# Altium footprint library MDBU014A.PcbLib: 53 footprints (part 1 of 4)
Each footprint in its own frame and in the unit in brackets; x right, y up, seen from the top. Pads: shape width x height; smd on the part's side, far side on the other; paste and mask are expansions set on the pad; w line width, h text height; cw(c..) or ccw(c..) is an arc to the next point about the centre after c.
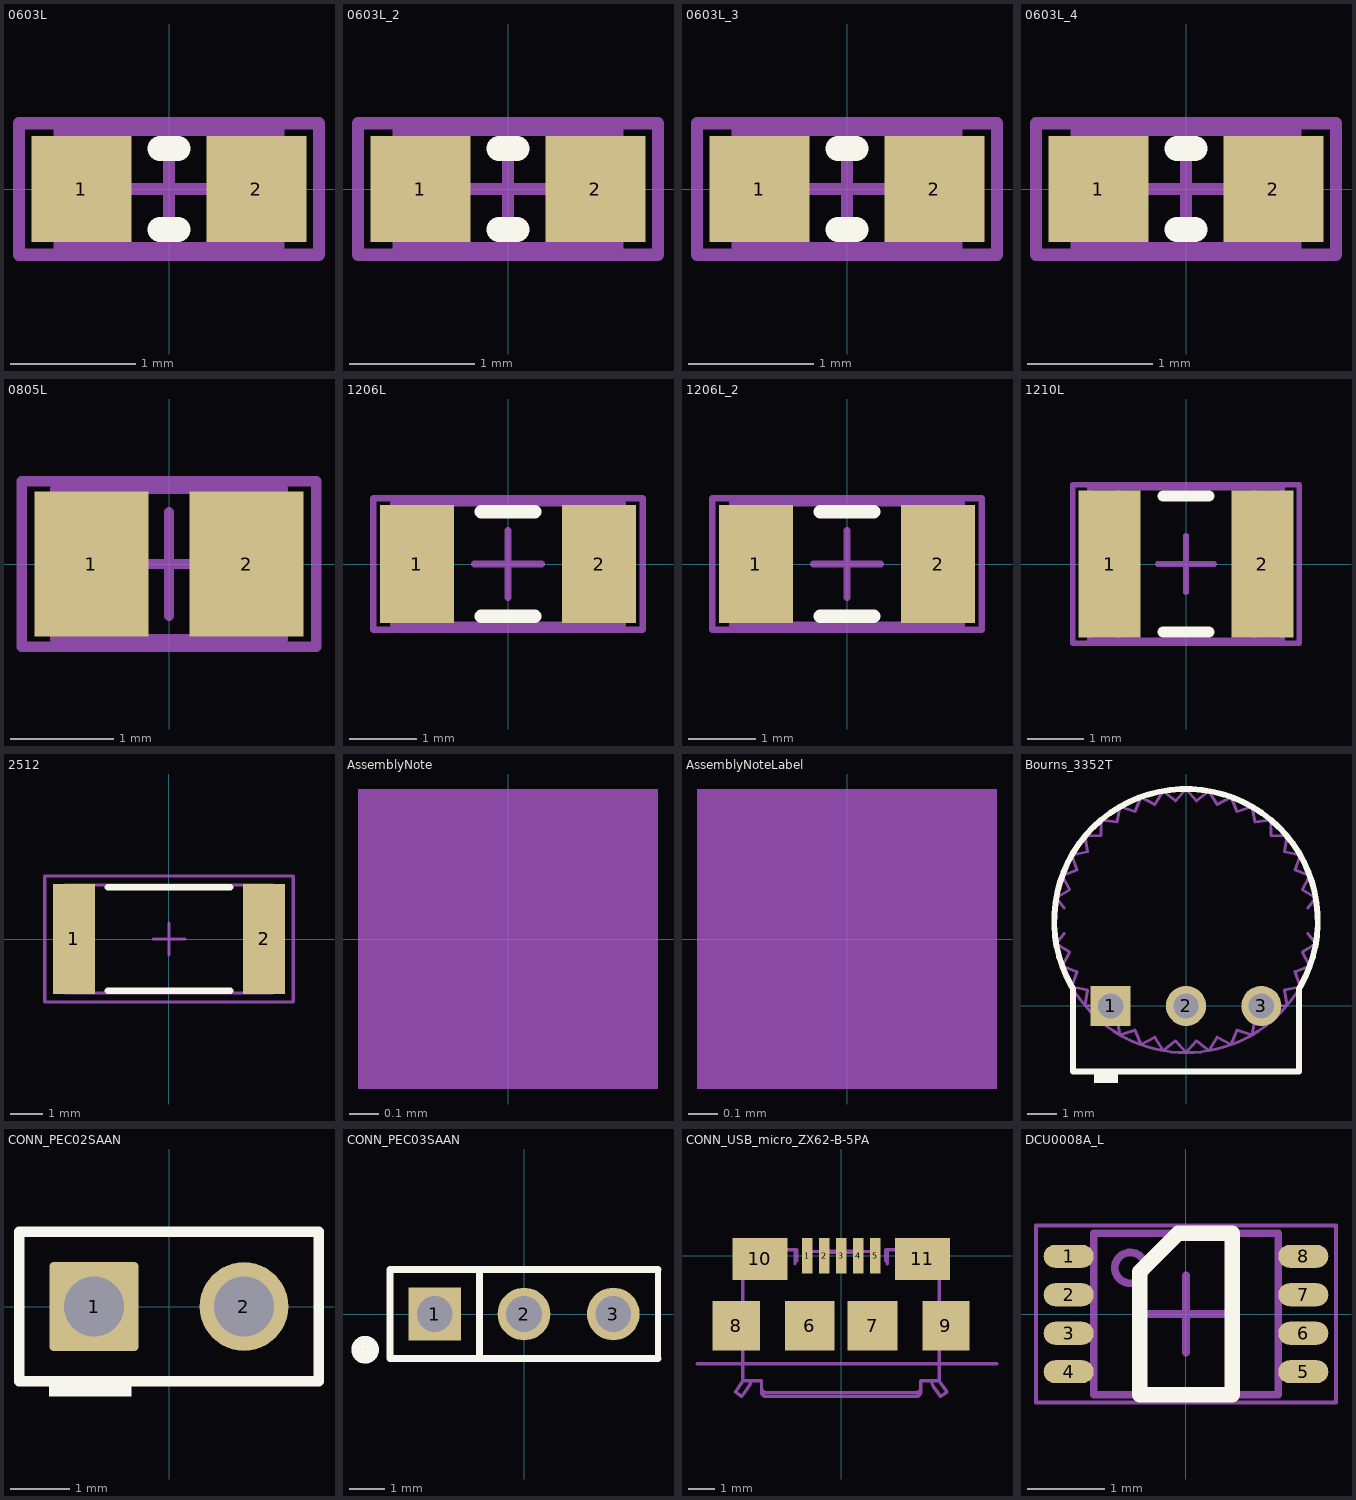
[diagram p0: the footprints below, top view; thin cyan lines are the x and y axes]

## 0603L [mm]
pads (2):
  rect 0.8x0.85 smd: 1(-0.7,0) 2(0.7,0)
Top Overlay:
  lines w0.2: -0.071,-0.325 0.071,-0.325 ; -0.071,0.325 0.071,0.325
Mechanical 5:
  lines w0.1: -1.2,-0.525 1.2,-0.525 1.2,0.525 -1.2,0.525 -1.2,-0.525
  text ".Designator" at -1.778,0.889 h0.56
Mechanical 13:
  lines w0.1: -0.55,-0.475 -0.55,0.475 ; 0.55,-0.475 0.55,0.475 ; -0.875,-0.475 0.875,-0.475 0.875,0.475 -0.875,0.475 -0.875,-0.475
Mechanical 15:
  lines w0.1: -0.475,0 0.475,0 ; 0,-0.475 0,0.475 ; -1.2,-0.525 -1.2,0.525 1.2,0.525 1.2,-0.525 -1.2,-0.525
3D body: height 0.85, standoff 0, extent -0.874,-0.474 -0.551,0.474
3D body: height 0.85, standoff 0, extent -0.549,-0.474 0.549,0.474
3D body: height 0.85, standoff 0, extent 0.551,-0.474 0.874,0.474

## 0603L_2 [mm]
pads (2):
  rect 0.8x0.85 smd: 1(-0.7,0) 2(0.7,0)
Top Overlay:
  lines w0.2: -0.071,-0.325 0.071,-0.325 ; -0.071,0.325 0.071,0.325
Mechanical 5:
  lines w0.1: -1.2,-0.525 -1.2,0.525 1.2,0.525 1.2,-0.525 -1.2,-0.525
  text ".Designator" at -1.05,-0.275 h0.56
Mechanical 13:
  lines w0.1: -0.55,-0.475 -0.55,0.475 ; 0.55,-0.475 0.55,0.475 ; -0.875,-0.475 -0.875,0.475 0.875,0.475 0.875,-0.475 -0.875,-0.475
Mechanical 15:
  lines w0.1: -0.475,0 0.475,0 ; 0,-0.475 0,0.475 ; -1.2,-0.525 1.2,-0.525 1.2,0.525 -1.2,0.525 -1.2,-0.525
3D body: height 0.85, standoff 0, extent 0.551,-0.474 0.874,0.474
3D body: height 0.85, standoff 0, extent -0.549,-0.474 0.549,0.474
3D body: height 0.85, standoff 0, extent -0.874,-0.474 -0.551,0.474

## 0603L_3 [mm]
pads (2):
  rect 0.8x0.85 smd: 1(-0.7,0) 2(0.7,0)
Top Overlay:
  lines w0.2: -0.071,-0.325 0.071,-0.325 ; -0.071,0.325 0.071,0.325
Mechanical 5:
  lines w0.1: -1.2,-0.525 -1.2,0.525 1.2,0.525 1.2,-0.525 -1.2,-0.525
  text ".Designator" at -1.05,-0.275 h0.56
Mechanical 13:
  lines w0.1: -0.55,-0.475 -0.55,0.475 ; 0.55,-0.475 0.55,0.475 ; -0.875,-0.475 -0.875,0.475 0.875,0.475 0.875,-0.475 -0.875,-0.475
Mechanical 15:
  lines w0.1: -0.475,0 0.475,0 ; 0,-0.475 0,0.475 ; -1.2,-0.525 1.2,-0.525 1.2,0.525 -1.2,0.525 -1.2,-0.525
3D body: height 0.85, standoff 0, extent 0.551,-0.474 0.874,0.474
3D body: height 0.85, standoff 0, extent -0.549,-0.474 0.549,0.474
3D body: height 0.85, standoff 0, extent -0.874,-0.474 -0.551,0.474

## 0603L_4 [mm]
pads (2):
  rect 0.8x0.85 smd: 1(-0.7,0) 2(0.7,0)
Top Overlay:
  lines w0.2: -0.071,-0.325 0.071,-0.325 ; -0.071,0.325 0.071,0.325
Mechanical 5:
  lines w0.1: -1.2,-0.525 -1.2,0.525 1.2,0.525 1.2,-0.525 -1.2,-0.525
  text ".Designator" at -1.05,-0.275 h0.56
Mechanical 13:
  lines w0.1: -0.55,-0.475 -0.55,0.475 ; 0.55,-0.475 0.55,0.475 ; -0.875,-0.475 -0.875,0.475 0.875,0.475 0.875,-0.475 -0.875,-0.475
Mechanical 15:
  lines w0.1: -0.475,0 0.475,0 ; 0,-0.475 0,0.475 ; -1.2,-0.525 1.2,-0.525 1.2,0.525 -1.2,0.525 -1.2,-0.525
3D body: height 0.85, standoff 0, extent 0.551,-0.474 0.874,0.474
3D body: height 0.85, standoff 0, extent -0.549,-0.474 0.549,0.474
3D body: height 0.85, standoff 0, extent -0.874,-0.474 -0.551,0.474

## 0805L [mm]
pads (2):
  rect 1.1x1.4 smd: 1(-0.75,0) 2(0.75,0)
Mechanical 5:
  lines w0.1: -1.425,-0.8 -1.425,0.8 1.425,0.8 1.425,-0.8 -1.425,-0.8
  text ".Designator" at -1.2,-0.325 h0.64
Mechanical 13:
  lines w0.1: -0.65,-0.725 -0.65,0.725 ; 0.65,-0.725 0.65,0.725 ; -1.1,-0.725 -1.1,0.725 1.1,0.725 1.1,-0.725 -1.1,-0.725
Mechanical 15:
  lines w0.1: -0.5,0 0.5,0 ; 0,-0.5 0,0.5 ; -1.425,-0.8 1.425,-0.8 1.425,0.8 -1.425,0.8 -1.425,-0.8
3D body: height 1.1, standoff 0, extent 0.651,-0.724 1.099,0.724
3D body: height 1.1, standoff 0, extent -0.649,-0.724 0.649,0.724
3D body: height 1.1, standoff 0, extent -1.099,-0.724 -0.651,0.724

## 1206L [mm]
pads (2):
  rect 1.1x1.75 smd: 1(-1.35,0) 2(1.35,0)
Top Overlay:
  lines w0.2: -0.4,-0.775 0.4,-0.775 ; -0.4,0.775 0.4,0.775
Mechanical 5:
  lines w0.1: -1.7,-0.9 -1.7,0.9 1.7,0.9 1.7,-0.9 -1.7,-0.9
  text ".Designator" at -1.475,-0.4 h0.81
Mechanical 13:
  lines w0.1: -1.2,-0.9 -1.2,0.9 ; 1.2,-0.9 1.2,0.9 ; -1.7,-0.9 1.7,-0.9 1.7,0.9 -1.7,0.9 -1.7,-0.9
Mechanical 15:
  lines w0.1: -0.5,0 0.5,0 ; 0,-0.5 0,0.5 ; -2,-0.975 -2,0.975 2,0.975 2,-0.975 -2,-0.975
3D body: height 1.35, standoff 0, extent -1.699,-0.899 -1.201,0.899
3D body: height 1.35, standoff 0, extent -1.199,-0.899 1.199,0.899
3D body: height 1.35, standoff 0, extent 1.201,-0.899 1.699,0.899

## 1206L_2 [mm]
pads (2):
  rect 1.1x1.75 smd: 1(-1.35,0) 2(1.35,0)
Top Overlay:
  lines w0.2: -0.4,-0.775 0.4,-0.775 ; -0.4,0.775 0.4,0.775
Mechanical 5:
  lines w0.1: -1.7,-0.9 1.7,-0.9 1.7,0.9 -1.7,0.9 -1.7,-0.9
  text ".Designator" at -1.475,-0.4 h0.81
Mechanical 13:
  lines w0.1: -1.2,-0.9 -1.2,0.9 ; 1.2,-0.9 1.2,0.9 ; -1.7,-0.9 -1.7,0.9 1.7,0.9 1.7,-0.9 -1.7,-0.9
Mechanical 15:
  lines w0.1: -0.5,0 0.5,0 ; 0,-0.5 0,0.5 ; -2,-0.975 2,-0.975 2,0.975 -2,0.975 -2,-0.975
3D body: height 1.35, standoff 0, extent 1.201,-0.899 1.699,0.899
3D body: height 1.35, standoff 0, extent -1.199,-0.899 1.199,0.899
3D body: height 1.35, standoff 0, extent -1.699,-0.899 -1.201,0.899

## 1210L [mm]
pads (2):
  rect 1.1x2.6 smd: 1(-1.35,0) 2(1.35,0)
Top Overlay:
  lines w0.2: -0.4,-1.2 0.4,-1.2 ; -0.4,1.2 0.4,1.2
Mechanical 5:
  lines w0.1: -1.7,-1.35 1.7,-1.35 1.7,1.35 -1.7,1.35 -1.7,-1.35
  text ".Designator" at -1.4,-0.375 h0.76
Mechanical 13:
  lines w0.1: -1.2,-1.35 -1.2,1.35 ; 1.2,-1.35 1.2,1.35 ; -1.7,-1.35 1.7,-1.35 1.7,1.35 -1.7,1.35 -1.7,-1.35
Mechanical 15:
  lines w0.1: -0.5,0 0.5,0 ; 0,-0.5 0,0.5 ; -2,-1.4 -2,1.4 2,1.4 2,-1.4 -2,-1.4
3D body: height 1.35, standoff 0, extent 1.201,-1.349 1.699,1.349
3D body: height 1.35, standoff 0, extent -1.199,-1.349 1.199,1.349
3D body: height 1.35, standoff 0, extent -1.699,-1.349 -1.201,1.349

## 2512 [mm]
pads (2):
  rect 1.3x3.4 smd: 1(-2.95,0) 2(2.95,0)
Top Overlay:
  lines w0.2: -1.9,-1.6 1.9,-1.6 ; -1.9,1.6 1.9,1.6
Mechanical 5:
  lines w0.1: -3.225,-1.675 -3.225,1.675 3.225,1.675 3.225,-1.675 -3.225,-1.675
  text ".Designator" at -1.85,-0.5 h1.02
Mechanical 13:
  lines w0.1: -2.463,-1.675 -2.463,1.675 ; 2.463,-1.675 2.463,1.675 ; -3.225,-1.675 -3.225,1.675 3.225,1.675 3.225,-1.675 -3.225,-1.675
Mechanical 15:
  lines w0.1: -0.5,0 0.5,0 ; 0,-0.5 0,0.5 ; -3.85,-1.95 -3.85,1.95 3.85,1.95 3.85,-1.95 -3.85,-1.95
3D body: height 0.71, standoff 0, extent 2.464,-1.674 3.224,1.674
3D body: height 0.71, standoff 0, extent -2.462,-1.674 2.462,1.674
3D body: height 0.71, standoff 0, extent -3.224,-1.674 -2.464,1.674

## AssemblyNote [mm]
Mechanical 5:
  rectangle: -0.508,-0.508 0.508,0.508
  text ".Designator" at -4.191,-0.508 h1.02
  text ".Comment" at 1.143,-0.508 h1.02

## AssemblyNoteLabel [mm]
Mechanical 5:
  rectangle: -0.508,-0.508 0.508,0.508
  text ".Designator" at -4.191,-0.508 h1.02
  text "Install label in silkscreened box after final wash.  Text shall be 8 pt font.  Text shall be per the Label Table in the PDF schematic." at 1.143,-0.508 h1.02

## Bourns_3352T [mm]
pads (3):
  rect 1.35x1.35 hole 0.85: 1(-2.54,0)
  round 1.35 hole 0.85: 2(0,0) 3(2.54,0)
Top Overlay:
  region: -2.3,-2.6 -2.3,-2.2 -3.1,-2.2 -3.1,-2.6
  lines w0.2: -3.849,0.647 cw(c0,2.87) 3.849,0.647 ; -3.81,0.58 -3.81,-2.21 3.81,-2.21 3.81,0.58
Mechanical 5:
  lines w0.1: -4.105,2.44 -4.377,2.098 ; -4.105,3.3 -4.377,3.642 ; -3.81,0.58 -3.81,-2.21 3.81,-2.21 3.81,0.58 ; 4.105,2.44 4.377,2.098 ; 4.105,3.3 4.377,3.642 ; -4.377,2.098 ccw(c0,2.87) -4.177,1.35 ; -4.377,2.098 cw(c0,2.87) -4.377,3.642 ; -4.377,2.098 -3.922,1.819 -4.177,1.35 ; -4.377,3.642 cw(c0,2.87) -4.177,4.39 ; -4.377,3.642 -3.922,3.921 -4.177,4.39 ; -4.177,1.35 ccw(c0,2.87) -3.849,0.647 ; -4.177,1.35 -3.68,1.154 -3.849,0.647 ; -4.177,4.39 cw(c0,2.87) -3.849,5.093 ; -4.177,4.39 -3.68,4.586 -3.849,5.092 ; -3.849,0.647 ccw(c0,2.87) -3.405,0.013 ; -3.849,0.647 -3.326,0.541 -3.405,0.013 ; -3.849,5.093 cw(c0,2.87) -3.405,5.727 ; -3.849,5.092 -3.326,5.199 -3.405,5.727 ; -3.405,0.013 ccw(c0,2.87) -2.857,-0.535 ; -3.405,0.013 -2.871,-0.001 -2.857,-0.535 ; -3.405,5.727 cw(c0,2.87) -2.857,6.275 ; -3.405,5.727 -2.871,5.741 -2.857,6.275 ; -2.857,-0.535 ccw(c0,2.87) -2.223,-0.979 ; -2.857,-0.535 -2.329,-0.456 -2.222,-0.979 ; -2.857,6.275 cw(c0,2.87) -2.223,6.719 ; -2.857,6.275 -2.329,6.196 -2.222,6.719 ; -2.223,-0.979 ccw(c0,2.87) -1.52,-1.307 ; -2.222,-0.979 -1.716,-0.81 -1.52,-1.307 ; -2.223,6.719 cw(c0,2.87) -1.52,7.047 ; -2.222,6.719 -1.716,6.55 -1.52,7.047 ; -1.52,-1.307 ccw(c0,2.87) -0.772,-1.507 ; -1.52,-1.307 -1.051,-1.052 -0.772,-1.507 ; -1.52,7.047 cw(c0,2.87) -0.772,7.247 ; -1.52,7.047 -1.051,6.792 -0.772,7.247 ; -0.772,-1.507 ccw(c0,2.87) 0,-1.575 ; -0.772,-1.507 -0.354,-1.175 0,-1.575 ; -0.772,7.247 cw(c0,2.87) 0,7.315 ; -0.772,7.247 -0.354,6.915 0,7.315 ; 0,-1.575 ccw(c0,2.87) 0.772,-1.507 ; 0,-1.575 0.354,-1.175 0.772,-1.507 ; 0,7.315 cw(c0,2.87) 0.772,7.247 ; 0,7.315 0.354,6.915 0.772,7.247 ; 0.772,-1.507 ccw(c0,2.87) 1.52,-1.307 ; 0.772,-1.507 1.051,-1.052 1.52,-1.307 ; 0.772,7.247 cw(c0,2.87) 1.52,7.047 ; 0.772,7.247 1.051,6.792 1.52,7.047 ; 1.52,-1.307 ccw(c0,2.87) 2.223,-0.979 ; 1.52,-1.307 1.716,-0.81 2.222,-0.979 ; 1.52,7.047 cw(c0,2.87) 2.223,6.719 ; 1.52,7.047 1.716,6.55 2.222,6.719 ; 2.223,-0.979 ccw(c0,2.87) 2.857,-0.535 ; 2.222,-0.979 2.329,-0.456 2.857,-0.535 ; 2.223,6.719 cw(c0,2.87) 2.857,6.275 ; 2.222,6.719 2.329,6.196 2.857,6.275 ; 2.857,-0.535 ccw(c0,2.87) 3.405,0.013 ; 2.857,-0.535 2.871,-0.001 3.405,0.013 ; 2.857,6.275 cw(c0,2.87) 3.405,5.727 ; 2.857,6.275 2.871,5.741 3.405,5.727 ; 3.405,0.013 ccw(c0,2.87) 3.849,0.647 ; 3.405,0.013 3.326,0.541 3.849,0.647 ; 3.405,5.727 cw(c0,2.87) 3.849,5.093 ; 3.405,5.727 3.326,5.199 3.849,5.092 ; 3.849,0.647 ccw(c0,2.87) 4.177,1.35 ; 3.849,0.647 3.68,1.154 4.177,1.35 ; 3.849,5.093 cw(c0,2.87) 4.177,4.39 ; 3.849,5.092 3.68,4.586 4.177,4.39 ; 4.177,1.35 ccw(c0,2.87) 4.377,2.098 ; 4.177,1.35 3.922,1.819 4.377,2.098 ; 4.177,4.39 cw(c0,2.87) 4.377,3.642 ; 4.177,4.39 3.922,3.921 4.377,3.642 ; 4.377,2.098 ccw(c0,2.87) 4.377,3.642
  text ".Designator" at -2,2 h1.02
3D body "3352T.stp": height 3.81, standoff -4.75, extent -4.445,-2.21 4.445,7.315

## CONN_PEC02SAAN [mm]
pads (2):
  rrect7% 1.5x1.5 hole 1.016: 1(-1.27,0)
  round 1.5 hole 1.016: 2(1.27,0)
Top Overlay:
  rectangle: -2.032,-1.524 -0.635,-1.27
  lines w0.178: -2.54,-1.27 -2.54,1.27 2.54,1.27 2.54,-1.27 -2.54,-1.27
Mechanical 5:
  lines w0.127: -2.54,-1.27 2.54,-1.27 2.54,1.27 -2.54,1.27 -2.54,-1.27
  text ".Designator" at -1.778,-0.381 h0.76
3D body: height 2.54, standoff 0, extent -2.539,-1.269 2.539,1.269
3D body: height 8.38, standoff -3.05, extent -1.574,-0.304 -0.966,0.304
3D body: height 8.38, standoff -3.05, extent 0.966,-0.304 1.574,0.304

## CONN_PEC03SAAN [mm]
pads (3):
  rect 1.5x1.5 hole 1.016: 1(-2.54,0)
  round 1.5 hole 1.016: 2(0,0) 3(2.54,0)
Top Overlay:
  circle w0.381: c-4.521,-1.016 r0.203
  lines w0.178: 3.81,-1.27 3.81,0.254 3.81,1.27
  lines w0.203: -1.27,1.27 -1.27,-1.27 ; 3.81,-1.27 -1.27,-1.27 ; 3.81,1.27 -3.81,1.27 -3.81,-1.27 -1.27,-1.27
Mechanical 5:
  rectangle: -3.048,-0.508 -2.032,0.508
  lines w0.127: -3.81,-1.27 -3.81,1.27 3.81,1.27 3.81,-1.27 -3.81,-1.27
  text ".Designator" at -1.524,-0.254 h0.76
3D body: height 8.38, standoff -3.05, extent 2.236,-0.304 2.844,0.304
3D body: height 8.38, standoff -3.05, extent -0.304,-0.304 0.304,0.304
3D body: height 8.38, standoff -3.05, extent -2.844,-0.304 -2.236,0.304
3D body: height 2.54, standoff 0, extent -3.835,-1.295 3.835,1.295

## CONN_USB_micro_ZX62-B-5PA [mm]
pads (11):
  rect 0.4x1.35 smd: 1(-1.3,0) 2(-0.65,0) 3(0,0) 4(0.65,0) 5(1.3,0)
  rect 1.9x1.9 smd: 6(-1.2,-2.675) 7(1.2,-2.675)
  rect 1.8x1.9 smd: 8(-4,-2.675) 9(4,-2.675)
  rect 2.1x1.6 smd: 10(-3.1,-0.125) 11(3.1,-0.125)
Mechanical 1:
  lines w0.12: -5.5,-4.125 5.95,-4.125
  text "board edge" at -2.325,-5 h0.5
Mechanical 5:
  drawing of 511 lines, arcs and shapes, not listed
  text ".Designator" at -1.9,-3.025 h0.76
3D body "Hirose_ZX62-B-5P.stp": height 2.55, standoff 0.02, extent -3.75,-5.325 3.75,0.175

## DCU0008A_L [mm]
pads (8):
  oval 0.65x0.3 smd: 1(-1.525,0.75) 2(-1.525,0.25) 3(-1.525,-0.25) 4(-1.525,-0.75) 5(1.525,-0.75) 6(1.525,-0.25) 7(1.525,0.25) 8(1.525,0.75)
Top Overlay:
  lines w0.2: -0.6,-1.05 0.6,-1.05 0.6,1.05 -0.1,1.05 -0.6,0.55 -0.6,-1.05
Mechanical 5:
  circle w0.1: c-0.725,0.6 r0.2
  lines w0.1: -1.2,-1.05 1.2,-1.05 1.2,1.05 -1.2,1.05 -1.2,-1.05
  text ".Designator" at -1.016,-0.489 h0.51
Mechanical 15:
  lines w0.05: -1.95,-1.15 1.95,-1.15 1.95,1.15 -1.95,1.15 -1.95,-1.15
  lines w0.1: -0.5,0 0.5,0 ; 0,-0.5 0,0.5
3D body: height 0.9, standoff 0, extent -1.2,-1.05 1.2,1.05
3D body: height 0.91, standoff 0.8, extent -0.924,0.401 -0.526,0.799